# EAGLE library part UPG2164T5N (library renesas)
DPDT RF SWITCH 2.4 GHz AND 6 GHz DUAL-BAND WIRELESS LAN
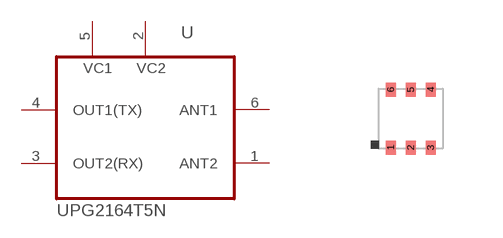
[diagram p5: symbol with the pads of TSON6; footprint TSON6]

Designator prefix U

## UPG2164T5N  [TSON6]
1  ANT2  pas
2  VC2  in
3  OUT2(RX)  pas
4  OUT1(TX)  pas
5  VC1  in
6  ANT1  pas

## Footprint TSON6 (pad centres in mm)
TSON-6 body 1.5 x 1.5 mm
smd 0.25 x 0.35: 1 -0.5,-0.725; 2 0,-0.725; 3 0.5,-0.725; 4 0.5,0.725; 5 0,0.725; 6 -0.5,0.725